# EAGLE library part HYCW498-USBC16-735B_LCSC (library lcsc_parts)
Description: USB-C (USB TYPE-C) Receptacle Connector 16 Position Surface Mount, Right Angle Manufacturer: HOAUC MPN: HYCW498-USBC16-735B LCSC Part: C42400252 Category: USB, DVI, HDMI Connector Assemblies Datasheet: https://datasheet.lcsc.com/datasheet/pdf/4b6d0e528ebcd707a0610c378743aba6.pdf?productCode=C42400252
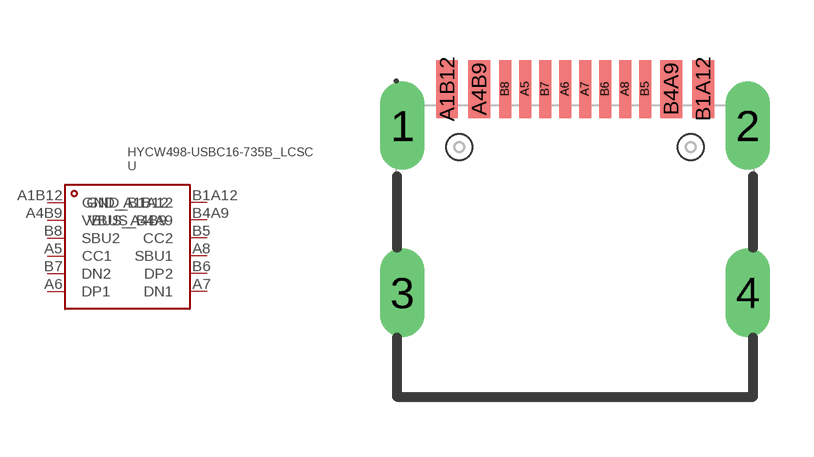
[diagram p24: symbol with the pads of USB-C-SMD_HYCW498-USBC16-735B; footprint USB-C-SMD_HYCW498-USBC16-735B]

Designator prefix U

## HYCW498-USBC16-735B_LCSC (CATEGORY: USB, DVI, HDMI Connector Assemblies; CONNECTOR_TYPE: Type-C; DATASHEET: https://datasheet.lcsc.com/datasheet/pdf/4b6d0e528ebcd707a0610c378743aba6.pdf?productCode=C42400252; DESCRIPTION: USB-C (USB TYPE-C) Receptacle Connector 16 Position Surface Mount, Right Angle; GENDER: Female; LCSC_PART: C42400252; LCSC_STOCK: 7030; MANUFACTURER: HOAUC; MOUNTING_TYPE: Surface Mount, Right Angle; MPN: HYCW498-USBC16-735B; NUMBER_OF_CONTACTS: 16P; NUMBER_OF_PORTS: 1; OPERATING_TEMPERATURE: -30℃~+85℃; PARTNO: HYCW498-USBC16-735B; PRICING_1000: $0.0322/unit @ 1000; PRICING_50: $0.0527/unit @ 50; PROTOCOL_STANDARD: USB 3.1)  [USB-C-SMD_HYCW498-USBC16-735B]
A1B12  GND_A1B12
A4B9  VBUS_A4B9
A5  CC1
A6  DP1
A7  DN1
A8  SBU1
B1A12  GND_B1A12
B4A9  VBUS_B4A9
B5  CC2
B6  DP2
B7  DN2
B8  SBU2

## Footprint USB-C-SMD_HYCW498-USBC16-735B (pad centres in mm)
drill 0.6 pad 0.6 long: 1 -4.32,1.63; 2 4.32,1.63; 3 -4.32,-2.55; 4 4.32,-2.55
smd 0.55 x 1.45: A1B12 -3.2,2.55; A4B9 -2.4,2.55; B1A12 3.2,2.55; B4A9 2.4,2.55
smd 0.3 x 1.45: A5 -1.25,2.55; A6 -0.25,2.55; A7 0.25,2.55; A8 1.25,2.55; B5 1.75,2.55; B6 0.75,2.55; B7 -0.75,2.55; B8 -1.75,2.55
hole 0.65 at 2.89,1.1
hole 0.65 at -2.89,1.1